# Altium schematic symbol library SCH - MICROCONTROLLER - LM57CISD-10_NOPB.Schlib: 1 symbol
Pins are listed as number, name and electrical type; pins without a type are passive.

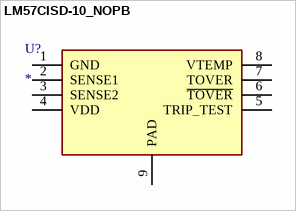
[diagram p0: symbol LM57CISD-10_NOPB]

## LM57CISD-10_NOPB
designator U?
Integrated Circuit
pins: 1 GND, 2 SENSE1, 3 SENSE2, 4 VDD, 5 TRIP_TEST, 6 ~{TOVER}, 7 TOVER, 8 VTEMP, 9 PAD